# Altium schematic symbol library STM32G071K8T3.SchLib: 1 symbol
Pins are listed as number, name and electrical type; pins without a type are passive.

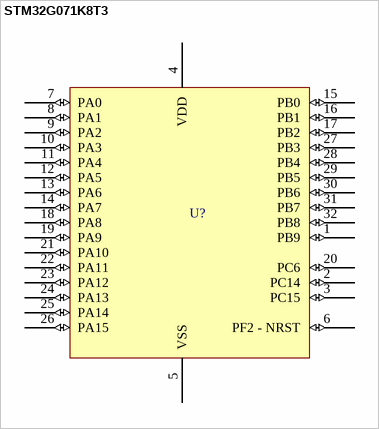
[diagram p0: symbol STM32G071K8T3]

## STM32G071K8T3
designator U?  (value not drawn)
Mainstream Arm Cortex-M0+ MCU with 64 Kbytes of Flash memory, 36 Kbytes RAM, 64 MHz CPU, 4x USART, timers, ADC, DAC, comm. I/F, 1.7-3.6V
pins: 1 PB9 (io), 2 PC14 (io), 3 PC15 (io), 4 VDD (power), 5 VSS (power), 6 PF2 - NRST (io), 7 PA0 (io), 8 PA1 (io), 9 PA2 (io), 10 PA3 (io), 11 PA4 (io), 12 PA5 (io), 13 PA6 (io), 14 PA7 (io), 15 PB0 (io), 16 PB1 (io), 17 PB2 (io), 18 PA8 (io), 19 PA9 (io), 20 PC6 (io), 21 PA10 (io), 22 PA11 (io), 23 PA12 (io), 24 PA13 (io), 25 PA14 (io), 26 PA15 (io), 27 PB3 (io), 28 PB4 (io), 29 PB5 (io), 30 PB6 (io), 31 PB7 (io), 32 PB8 (io)